# EAGLE library part 452403012014 (library Eagle_WS-SLSV (rev20a))
WS-SLSV SMD Mini Slide Switch, Same Side Connection 7.65 x 5.5 mm Properties Actuator Material:LCP Actuator Flammability Rating:UL94 V-0 Actuator Color:Black Frame Material:PA6T Frame Flammability Rating:UL94 V-0 Frame Color:Black Contact Material:Copper Alloy Contact Plating:Silver Terminal Material:Copper Alloy Terminal Plating:Silver VR:6 V (DC) VR:6 V (DC) Contact Resistance Initial:50 mΩ Contact Resistance After Life Test:200 mΩ RISO:100 MΩ Withstanding Voltage:500 V (AC) Qty.:1500 Electrical Properties IR:300 mA Mechanical Properties Operation Force:350g Packaging Properties Packaging :Tape and Reel <https://www.we-online.com/catalog/media/o64640v209%20Family_WS-SLSV_452403012014.jpg> Details see: https://www.we-online.com/catalog/en/SLSV_7_65X_5_5_SMD_VERTICAL/ Updated by yingchun,Shan;2020-02-25 2020(C) Würth Elektronik
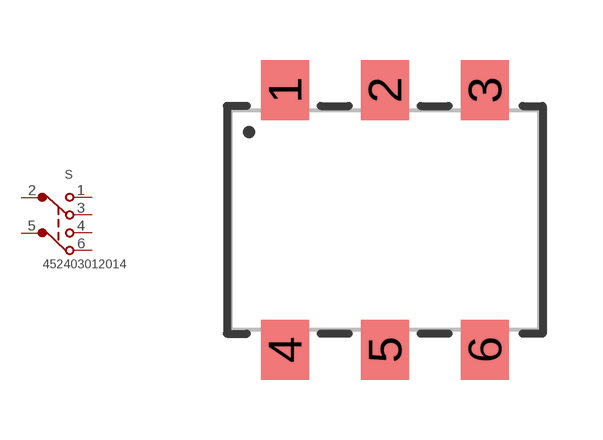
[diagram p0: symbol with the pads of 452403012014; footprint 452403012014]

Designator prefix S

## 452403012014 (DATASHEET-URL: https://www.we-online.com/catalog/datasheet/452403012014.pdf; PACKAGING: Tape and Reel; PART-NUMBER: 452403012014; QTY: 350)  [452403012014]
1  1  pas
2  2  pas
3  3  pas
4  4  pas
5  5  pas
6  6  pas

## Footprint 452403012014 (pad centres in mm)
WS-SLSV SMD Mini Slide Switch, Same Side Connection 7.65 x 5.5 mm
smd 1.2 x 1.5: 1 -2.5,3.25; 2 0,3.25; 3 2.5,3.25; 4 -2.5,-3.25; 5 0,-3.25; 6 2.5,-3.25